# EAGLE library part MPU9250 (library NuGina_Parts)
MPU9250, the new hotness in Invensys IMUs.
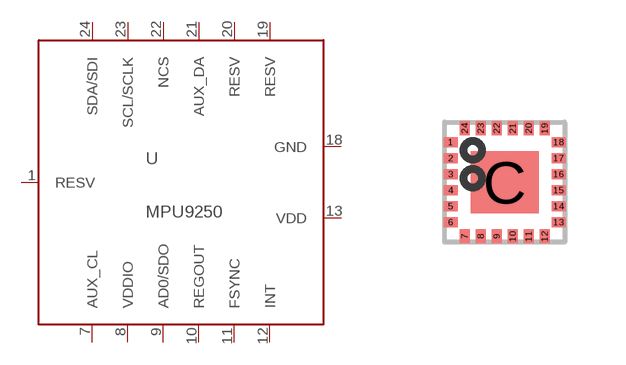
[diagram p0: symbol with the pads of QFN; footprint QFN]

Designator prefix U

## MPU9250QFN24  [QFN]
1  RESV
7  AUX_CL
8  VDDIO  pwr
9  AD0/SDO
10  REGOUT
11  FSYNC
12  INT
13  VDD  pwr
18  GND  pwr
19  RESV
20  RESV
21  AUX_DA
22  NCS
23  SCL/SCLK
24  SDA/SDI

## Footprint QFN (pad centres in mm)
Description: This QFN24 footprint is untested, designed for the MPU9250 package specifically.
smd 0.36 x 0.24: 1 -1.35,1; 2 -1.35,0.6; 3 -1.35,0.2; 4 -1.35,-0.2; 5 -1.35,-0.6; 6 -1.35,-1; 13 1.35,-1; 14 1.35,-0.6; 15 1.35,-0.2; 16 1.35,0.2; 17 1.35,0.6; 18 1.35,1
smd 0.24 x 0.36: 7 -1,-1.35; 8 -0.6,-1.35; 9 -0.2,-1.35; 10 0.2,-1.35; 11 0.6,-1.35; 12 1,-1.35; 19 1,1.35; 20 0.6,1.35; 21 0.2,1.35; 22 -0.2,1.35; 23 -0.6,1.35; 24 -1,1.35
smd 1.7 x 1.54: C 0,0